# Altium integrated library ConnCable.IntLib: 48 symbols
Pins are listed as number, name and electrical type; pins without a type are passive.

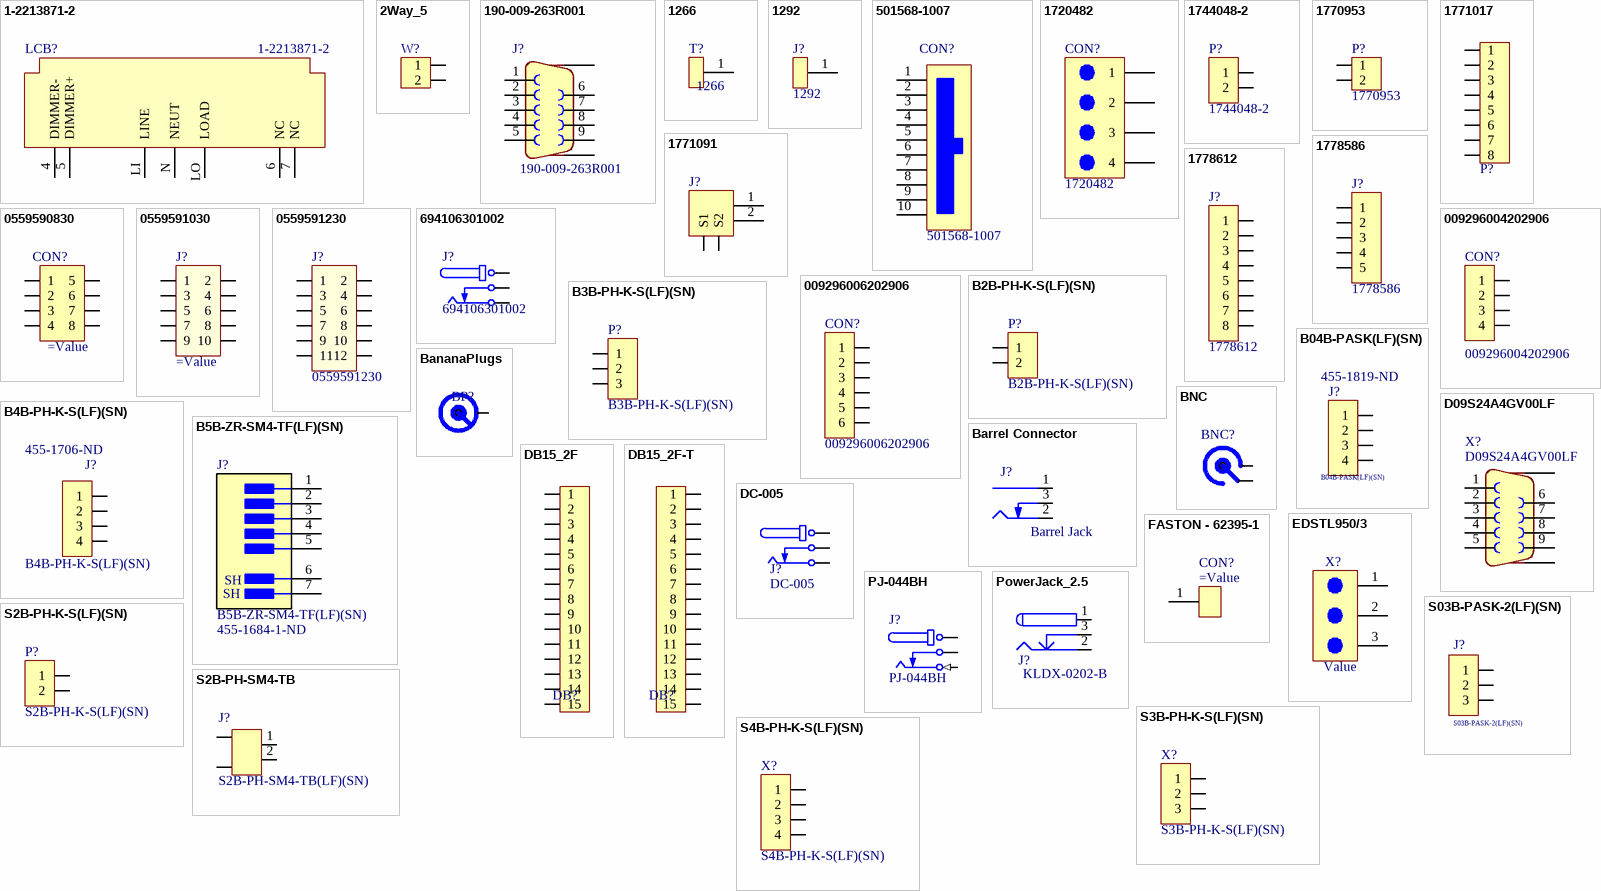
[diagram p0: symbols 1-2213871-2 to S4B-PH-K-S(LF)(SN)]

## 1-2213871-2
designator LCB?
LIGHT CONTROLLER BASE ASSY,81MM; Manufacturer: TE Connectivity AMP Connectors; Accessory Type: Light Controller Base Assembly; For Use With/Related Products: TE Connectivity, 2306130-x, 2213996-x; Supplier 1: Digi-Key; Manufacturer Part Number: 1-2213871-2; RoHS: RoHS Compliant; Category: Optoelectronics; Stock 1: 100; Pricing 1: 1=9.41, 10=8.523, 25=6.7476, 100=5.6821, 250=5.32692, 500=4.88302, 1000=4.61668 (USD); Part Status: Active; ComponentLink1URL: http://www.te.com/commerce/DocumentDelivery/DDEController?Action=srchrtrv&DocNm=2213871&DocType=Customer+Drawing&DocLang=English; ComponentLink1Description: http://www.te.com/commerce/DocumentDelivery/DDEController?Action=srchrtrv&DocNm=2213871&DocType=Customer+Drawing&DocLang=English; Supplier Part Number 1: A126616-ND; Value: 1-2213871-2
footprint 1-2213871-2 (LIGHT CONTROLLER BASE ASSY,81MM)
pins: 4 DIMMER-, 5 DIMMER+, 6 NC, 7 NC, LI LINE, LO LOAD, N NEUT

## 2Way_5
designator W?  (value not drawn)
DB; Populated: Yes; LifeCycle: Checked; ROHS: Yes
footprint 2Way_5
pins: 1, 2

## 190-009-263R001
designator J?
CONN DSUB RCPT 9POS SMD R/A SLDR; Manufacturer: NorComp Inc.; Connector Style: D-Sub; Connector Type: Receptacle, Female Sockets; Number of Positions: 9; Flange Feature: Housing/Shell (4-40); Material Flammability Rating: UL94 V-0; Voltage Rating: 300V; Current Rating: 5A; Supplier 1: Digi-Key; Manufacturer Part Number: 190-009-263R001; RoHS: RoHS Compliant; Category: Connectors, Interconnects; Stock 1: 3599; Pricing 1: 1=2.53, 10=2.424, 100=2.02, 500=1.717, 1000=1.4645, 5000=1.313 (USD); Packaging: Tube; Part Status: Active; Number of Rows: 2; Shell Size, Connector Layout: 1 (DE, E); Contact Type: Signal; Mounting Type: Board Edge, Surface Mount, Right Angle; Termination: Solder; Features: Board Guide, Board Lock, Shielded; Shell Material, Finish: Steel, Nickel Plated; Contact Finish: Gold; Contact Finish Thickness: Flash; Ingress Protection: -; Operating Temperature: -55°C ~ 105°C; Color: Black; Contact Form: -; Housing Material: Polyamide (PA6T), Nylon 6T; Wire Gauge: -; Contact Material: Phosphor Bronze; Backset Spacing: -; ComponentLink1URL: http://www.norcomp.net/rohspdfs/Connectors/19Y/190/190-009-263R001.pdf; ComponentLink1Description: http://www.norcomp.net/rohspdfs/Connectors/19Y/190/190-009-263R001.pdf; Value: 190-009-263R001; Supplier Part Number 1: 190-09FA-ND
footprint DB9-SMD
pins: 1, 2, 3, 4, 5, 6, 7, 8, 9, G1, G2

## 1266
designator T?
CONN QC TAB 0.250 SOLDER; Manufacturer: Keystone Electronics; Material: Brass,Tin; Body Plating: Tin; Body Material: Brass; Gender: Male; Number of Positions: 1; Insulation: Non-Insulated; Inside Diameter: 1.78mm; Tab Width: 0.25inch; Tab Thickness: 0.032inch; Approvals: UL; Tab Length: 0.312inch; Supplier 1: Digi-Key; Manufacturer Part Number: 1266; Stock 1: 12259; Pricing 1: 1=0.3, 10=0.283, 50=0.2366, 100=0.1982, 250=0.178, 500=0.1699, 1000=0.14495, 2500=0.12944, 5000=0.12135 (USD); Mount: Through Hole,Horizontal; Case/Package: 052; Contact Plating: Tin; Contact Material: Brass; Terminal Material: Brass; Package Quantity: 100; Packaging: Bulk; Termination: Solder; Orientation: Horizontal; Diameter: 0.052inch; Length: 20.04mm; Depth: 12.7mm; REACH SVHC: No SVHC; Lead Free: Lead Free; ComponentLink1URL: https://datasheet.ciiva.com/11835/0900766b800aa192-11835874.pdf; ComponentLink1Description: https://datasheet.ciiva.com/11835/0900766b800aa192-11835874.pdf; ComponentLink2URL: https://datasheet.ciiva.com/22647/1933925-22647397.pdf; ComponentLink2Description: https://datasheet.ciiva.com/22647/1933925-22647397.pdf; ComponentLink3URL: https://datasheet.ciiva.com/45986/2222221-45986615.pdf; ComponentLink3Description: https://datasheet.ciiva.com/45986/2222221-45986615.pdf; ComponentLink4URL: https://datasheet.ciiva.com/14551/70181613-14551274.pdf; ComponentLink4Description: https://datasheet.ciiva.com/14551/70181613-14551274.pdf; Value: 1266; Supplier Part Number 1: 36-1266-ND
footprint 1266
pins: 1 GND

## 1292
designator J?
CONN QC TAB 0.250 SOLDER, VERTICAL THT, / TAB LENGHT 18.03 mm ,Tab Thickness 0.81mm; Manufacturer: Keystone Electronics; Gender: Male; Insulation: Non-Insulated; Tab Width: 0.25inch; Tab Thickness: 0.032inch; Tab Length: 0.71inch; Supplier: Digikey; Supplier Part Number: 36-1292-ND; Manufacturer Part Number: 1292; RoHS: Yes; Category: Terminals; Stock: 54927; Pricing: 1=0,35, 25=0,2812, 100=0,2296, 250=0,2062, 500=0,19682, 1000=0,16402, 2500=0,14996 (USD); Mounting Technology: Through Hole; Contact Material: Brass; Contact Plating: Tin; Series: -; Package Quantity: 100; Packaging: Bulk; Termination: Solder; Orientation: Straight; Length: 0.94inch; RoHS Compliant: Yes; ComponentLink1URL: https://datasheet.ciiva.com/842/pcb-quick-fit-male20terminals-842208.pdf?src-supplier=Digikey; ComponentLink1Description: https://datasheet.ciiva.com/842/pcb-quick-fit-male20terminals-842208.pdf?src-supplier=Digikey; ComponentLink2URL: https://datasheet.ciiva.com/15391/1292-283348-15391839.pdf?src-supplier=Mouser; ComponentLink2Description: https://datasheet.ciiva.com/15391/1292-283348-15391839.pdf?src-supplier=Mouser
footprint KEYSTONE_1292 (CONN QC TAB 0.250 SOLDER)
pins: 1

## 501568-1007
designator CON?
Conn Shrouded Header HDR 10 POS 1mm Solder RA SMD Embossed T/R; Manufacturer 1: Molex; Number of Positions: 10; Connector Type: Male Pin; Current Rating: 1A; Voltage Rating: 50V; Gender: Male; Max Voltage Rating (DC): 5.05kV; Glow Wire Compliant: Non-compliant; Supplier 1: Digi-Key; Manufacturer Part Number 1: 501568-1007; Stock 1: 19191; Pricing 1: 1=0,79000, 10=0,69600, 100=0,60040, 500=0,49124 (USD); RoHS: Yes; Mount: Surface Mount; Housing Color: Natural; Housing Material: Nylon; Contact Material: Bronze,Brass; Color: Natural; Contact Plating: Tin; Min Operating Temperature: -40°C; Max Operating Temperature: 85°C; Orientation: Right Angle; Termination: Solder; Number of Contacts: 10; Contact Gender: Male; Number of Rows: 1; Packaging: Tape and Reel; Package Quantity: 1300; Max Voltage Rating (AC): 50V; Voltage Rating (AC): 50V; Number of Circuits: 10; Length: 12mm; Pitch: 1mm; Depth: 5.9mm; Radiation Hardening: No; REACH SVHC: Unknown; Lead Free: Lead Free; ComponentLink1URL: https://datasheet.ciiva.com/5153/5015681007-pcb-headers-179103-5153866.pdf?src-supplier=Mouser; ComponentLink1Description: https://datasheet.ciiva.com/5153/5015681007-pcb-headers-179103-5153866.pdf?src-supplier=Mouser; ComponentLink2URL: https://datasheet.ciiva.com/30120/5015681007-pcb-headers-30120143.pdf?src-supplier=Onlinecomponents.com; ComponentLink2Description: https://datasheet.ciiva.com/30120/5015681007-pcb-headers-30120143.pdf?src-supplier=Onlinecomponents.com; ComponentLink3URL: https://datasheet.ciiva.com/25289/1806596-25289943.pdf?src-supplier=Newark; ComponentLink3Description: https://datasheet.ciiva.com/25289/1806596-25289943.pdf?src-supplier=Newark; ComponentLink4URL: https://datasheet.ciiva.com/11748/0900766b80b0af8e-11748586.pdf?src-supplier=RSComponents; ComponentLink4Description: https://datasheet.ciiva.com/11748/0900766b80b0af8e-11748586.pdf?src-supplier=RSComponents; ComponentLink5URL: https://datasheet.ciiva.com/7810/ps-501568-001-7810320.pdf?src-supplier=Element14; ComponentLink5Description: https://datasheet.ciiva.com/7810/ps-501568-001-7810320.pdf?src-supplier=Element14; ComponentLink6URL: https://datasheet.ciiva.com/9469/5015681007-pcb-headers-9469138.pdf?src-supplier=Avnet; ComponentLink6Description: https://datasheet.ciiva.com/9469/5015681007-pcb-headers-9469138.pdf?src-supplier=Avnet; ComponentLink7URL: https://datasheet.ciiva.com/9469/5015681007-pcb-headers-9469135.pdf?src-supplier=Avnet; ComponentLink7Description: https://datasheet.ciiva.com/9469/5015681007-pcb-headers-9469135.pdf?src-supplier=Avnet; ComponentLink8URL: https://datasheet.ciiva.com/724/5015681007-sd-724413.pdf?src-supplier=Digi-Key; ComponentLink8Description: https://datasheet.ciiva.com/724/5015681007-sd-724413.pdf?src-supplier=Digi-Key; ComponentLink9URL: https://datasheet.ciiva.com/16690/5015681007-pcb-headers-16690573.pdf?src-supplier=Avnet+Europe; ComponentLink9Description: https://datasheet.ciiva.com/16690/5015681007-pcb-headers-16690573.pdf?src-supplier=Avnet+Europe; Value: 501568-1007; Supplier Part Number 1: WM7901CT-ND
footprint 5015681007
pins: 1, 2, 3, 4, 5, 6, 7, 8, 9, 10

## 1720482
designator CON?
TERM BLOCK HDR 4POS 90DEG 7.62MM; Manufacturer: Phoenix Contact; Number of Positions: 4; Number of Levels: 1; Pitch: 0.300" (7.62mm); Header Orientation: 90°, Right Angle; Current - IEC: 41A; Voltage - IEC: 1000V; Voltage - UL: 300V; Material Flammability Rating: UL94 V-0; Contact Tail Length: 0.197" (5.00mm); Supplier 1: Digi-Key; Manufacturer Part Number: 1720482; RoHS: RoHS Compliant; Category: Connectors, Interconnects; Stock 1: 536; Pricing 1: 1=5.52, 10=5.371, 50=5.02, 100=4.6184, 250=4.267, 500=4.0662, 1000=3.81521 (USD); Packaging: Bulk; Part Status: Active; Type: Header, Male Pins, Shrouded (4 Side); Positions Per Level: 4; Plug Wire Entry: -; Termination Style: Solder; Mounting Type: Through Hole; Current - UL: 41A; Wire Gauge or Range - AWG: -; Wire Gauge or Range - mm²: -; Color: Green; Operating Temperature: -; Contact Mating Finish: Tin; Features: Latch Lock; Ingress Protection: -; Screw Size: -; Torque - Screw: -; Wire Strip Length: -; Contact Material: -; Housing Material: Polyamide (PA), Nylon; Insulation Height: 0.563" (14.30mm); ComponentLink1URL: http://media.digikey.com/pdf/Data%20Sheets/Phoenix%20Contact%20PDFs/1720482.pdf; ComponentLink1Description: http://media.digikey.com/pdf/Data%20Sheets/Phoenix%20Contact%20PDFs/1720482.pdf; Value: 1720482; Supplier Part Number 1: 277-6233-ND
footprint 1720482
pins: 1, 2, 3, 4

## 1744048-2
designator P?
CONN HEADER R/A 2POS 5.08MM; Supplier 1: Digi-Key; Value: 1744048-2; Supplier Part Number 1: A116467-ND
footprint 1744048-2
pins: 1, 2

## 1770953
designator P?
CONN TERM BLK 2POS 2.5MM; Number of Levels: 1; Positions Per Level: 2; Pitch: 0.098" (2.50mm); Mating Orientation: Vertical with Board; Current: 5A; Voltage: 150V; Wire Gauge: 20-26 AWG; Wire Termination: Screwless - Spring Cage, Tension Clamp; Packaging: Cut Tape (CT); Part Status: Active; Mounting Type: Through Hole; Features: -; Color: Black; Operating Temperature: -; Housing Material: Liquid Crystal Polymer (LCP); Contact Material - Plating: -; Clamp Material - Plating: -; Screw Material - Plating: -; Torque - Screw: -; Screw Thread: -; ComponentLink1URL: http://media.digikey.com/pdf/Data%20Sheets/Phoenix%20Contact%20PDFs/1770953.pdf; ComponentLink1Description: http://media.digikey.com/pdf/Data%20Sheets/Phoenix%20Contact%20PDFs/1770953.pdf; Supplier 1: Digi-Key; Supplier Part Number 1: 277-2086-1-ND
footprint 1770953
pins: 1, 2

## 1771017
designator P?  (value not drawn)
Number of Levels: 1; Positions Per Level: 8; Pitch: 0.098" (2.50mm); Mating Orientation: Vertical with Board; Current: 5A; Voltage: 150V; Wire Gauge: 20-26 AWG; Wire Termination: Screwless - Spring Cage, Tension Clamp; Packaging: Cut Tape (CT); Part Status: Active; Mounting Type: Through Hole; Features: -; Color: Black; Operating Temperature: -; Housing Material: Liquid Crystal Polymer (LCP); Contact Material - Plating: -; Clamp Material - Plating: -; Screw Material - Plating: -; Torque - Screw: -; Screw Thread: -; ComponentLink1URL: http://media.digikey.com/pdf/Data%20Sheets/Phoenix%20Contact%20PDFs/1771017.pdf; ComponentLink1Description: http://media.digikey.com/pdf/Data%20Sheets/Phoenix%20Contact%20PDFs/1771017.pdf; Supplier 1: Digi-Key; Supplier Part Number 1: 277-2092-1-ND
footprint 1771017
pins: 1, 2, 3, 4, 5, 6, 7, 8

## 1771091
designator J?  (value not drawn)
CONN TERM BLK 2POS 2.5MM SMD; Populated: Yes; Value: 1771091; Supplier 1: Digi-Key; Supplier Part Number 1: 277-2072-1-ND; LifeCycle: Checked; ROHS: Yes
footprint 1771091
pins: 1, 2 1, S1, S2

## 1778586
designator J?
Connector, Shrouded, 5 pin, 2.5mm Pitch; Populated: Yes; LatestRevisionDate: 21-December-2015; PackageReference: LAUNCHPAD_HEADER; ROHS: Yes; Value: 1778586; LifeCycle: Checked
footprint 1778586
pins: 1, 2, 3, 4, 5

## 1778612
designator J?
CONN HEADER 8POS 2.5MM; Manufacturer: Phoenix Contact; Max Current Rating: 6A; Voltage Rating: 160V; Number of Positions: 8; Number of Levels: 1; Voltage: 150V; Approvals: UL; Supplier 1: Digi-Key; Manufacturer Part Number: 1778612; Stock 1: 5806; Pricing 1: 1=1.55, 10=1.484, 100=1.3803 (USD); Mount: Through Hole; Contact Plating: Tin; Colour: Black; Housing Material: Polymer; Housing Colour: Black; Current Rating: 6A; Package Quantity: 330; Packaging: Tape and Reel; Termination: Solder; Number of Poles: 8; Number of Contacts: 8; Orientation: Vertical; Number of Rows: 1; Number of Positions Per Level: 8; Current: 6A; Length: 5mm; Height: 7.5mm; Pitch: 2.5mm; Width: 21.7mm; Depth: 5mm; Lead Free: Lead Free; Flammability Rating: UL94 V-0; ComponentLink1URL: https://datasheet.ciiva.com/795/1778612-795449.pdf; ComponentLink1Description: https://datasheet.ciiva.com/795/1778612-795449.pdf; ComponentLink2URL: https://datasheet.ciiva.com/29211/734281-da-01-de-grundgehaeuse-ptsm-0-5-8-hv-2-5-thr-r44-29211951.pdf; ComponentLink2Description: https://datasheet.ciiva.com/29211/734281-da-01-de-grundgehaeuse-ptsm-0-5-8-hv-2-5-thr-r44-29211951.pdf; Value: 1778612; Supplier Part Number 1: 277-2307-1-ND
footprint 1778612 (TERM BLOCK HDR 8POS VERT 2.5MM)
pins: 1, 2, 3, 4, 5, 6, 7, 8

## 0559590830
designator CON?
Conn Shrouded Header HDR 8 POS 2mm Solder RA Thru-Hole MicroClasp™ Tray; Manufacturer: Molex; Manufacturer Part Number: 0559590830; Number of Positions: 8; Connector Type: Male Pin; Pitch: 0.079inch; Row Spacing: 0.197inch; Supplier 1: Digi-Key; Stock 1: 4162; Pricing 1: 1=0.73, 10=0.641, 100=0.5529, 500=0.4523, 1000=0.4021, 5000=0.3518, 10000=0.3342 (USD); Mount: Through Hole; Colour: Natural; Contact Plating: Tin; Contact Material: Brass; Housing Material: Polybutylene; Housing Colour: Natural; Min Operating Temperature: -25°C; Max Operating Temperature: 85°C; Package Quantity: 800; Packaging: Tray; Number of Rows: 2; Termination: Solder; Orientation: Right Angle; Fastening Type: Latch; Length: 11.4mm; Depth: 14.5mm; Radiation Hardening: No; ComponentLink1URL: https://datasheet.ciiva.com/3117/0559590830-pcb-headers-3117676.pdf; ComponentLink1Description: https://datasheet.ciiva.com/3117/0559590830-pcb-headers-3117676.pdf; ComponentLink2URL: https://datasheet.ciiva.com/29151/559590830-sd-29151564.pdf; ComponentLink2Description: https://datasheet.ciiva.com/29151/559590830-sd-29151564.pdf; ComponentLink3URL: https://datasheet.ciiva.com/2943/559590830-sd-2943677.pdf; ComponentLink3Description: https://datasheet.ciiva.com/2943/559590830-sd-2943677.pdf; Supplier Part Number 1: WM10112-ND
footprint 0559590830 (2.0 WTB DUAL CONN DIP PLG HSG)
pins: 1, 2, 3, 4, 5, 6, 7, 8

## 0559591030
designator J?
Conn Shrouded Header HDR 8 POS 2mm Solder RA Thru-Hole MicroClasp™ Tray; Manufacturer: Molex; Manufacturer Part Number: 0559590830; Number of Positions: 8; Connector Type: Male Pin; Pitch: 0.079inch; Row Spacing: 0.197inch; Mount: Through Hole; Colour: Natural; Contact Plating: Tin; Contact Material: Brass; Housing Material: Polybutylene; Housing Colour: Natural; Min Operating Temperature: -25°C; Max Operating Temperature: 85°C; Package Quantity: 800; Packaging: Tray; Number of Rows: 2; Termination: Solder; Orientation: Right Angle; Fastening Type: Latch; Length: 11.4mm; Depth: 14.5mm; Radiation Hardening: No; ComponentLink1URL: https://datasheet.ciiva.com/3117/0559590830-pcb-headers-3117676.pdf; ComponentLink1Description: https://datasheet.ciiva.com/3117/0559590830-pcb-headers-3117676.pdf; ComponentLink2URL: https://datasheet.ciiva.com/29151/559590830-sd-29151564.pdf; ComponentLink2Description: https://datasheet.ciiva.com/29151/559590830-sd-29151564.pdf; ComponentLink3URL: https://datasheet.ciiva.com/2943/559590830-sd-2943677.pdf; ComponentLink3Description: https://datasheet.ciiva.com/2943/559590830-sd-2943677.pdf; Supplier 1: Digi-Key; Supplier Part Number 1: WM7595-ND
footprint 0559591030 (2.0 WTB DUAL CONN DIP PLG HSG)
pins: 1, 2, 3, 4, 5, 6, 7, 8, 9, 10

## 0559591230
designator J?
Conn Shrouded Header HDR 12 POS 2mm Solder RA Thru-Hole MicroClasp™ Tray; Manufacturer 1: Molex; Number of Positions: 12; Connector Type: Male Pin; Row Spacing: 0.197inch; Supplier 1: Digi-Key; Manufacturer Part Number 1: 0559591230; Stock 1: 2008; Pricing 1: 1=0,90000, 10=0,78800, 100=0,67980, 500=0,55616, 1000=0,49437, 5000=0,43257, 10000=0,41094 (USD); RoHS: Yes; Mount: Through Hole; Housing Material: Polybutylene; Contact Plating: Tin; Contact Material: Brass; Color: Natural; Housing Color: Natural; Min Operating Temperature: -25°C; Max Operating Temperature: 85°C; Packaging: Tray; Orientation: Right Angle; Package Quantity: 600; Number of Rows: 2; Termination: Solder; Number of Contacts: 12; Fastening Type: Latch; Length: 15.4mm; Pitch: 2mm; Depth: 14.5mm; ComponentLink1URL: https://datasheet.ciiva.com/2943/559591230-sd-2943788.pdf?src-supplier=Digi-Key; ComponentLink1Description: https://datasheet.ciiva.com/2943/559591230-sd-2943788.pdf?src-supplier=Digi-Key; Supplier Part Number 1: WM12307-ND; Value: 0559591230
footprint 0559591230 (2.0 WTB DUAL CONN DIP PLG HSG)
pins: 1, 2, 3, 4, 5, 6, 7, 8, 9, 10, 11, 12

## 694106301002
designator J?
CONN PWR JACK 2.1X5.5MM SOLDER; Manufacturer: Wurth Electronics Inc.; Gender: Male; Industry Recognized Mating Diameter: 2.10mm ID (0.083"), 5.50mm OD (0.217"); Actual Diameter: 0.081" (2.05mm ID), 0.252" (6.40mm OD); Number of Positions/Contacts: 2 Conductors, 3 Contacts; Internal Switch(s): Single Switch, Normally Closed; Shielding: Unshielded; Voltage - Rated: 24VDC; Current Rating: 5A; Mating Length/Depth: 0.354" (9.00mm); Body Color: Black; Material Flammability Rating: UL94 V-0; Supplier 1: Digi-Key; Manufacturer Part Number: 694106301002; RoHS: RoHS Compliant; Category: Connectors, Interconnects; Stock 1: 8980; Pricing 1: 1=1.05, 10=0.923, 50=0.8322, 100=0.796, 500=0.65124, 1000=0.57888, 2500=0.551 (USD); Packaging: Bulk; Part Status: Active; Connector Type: Jack; Mounting Type: Through Hole, Right Angle; Mounting Feature: -; Termination: Solder Eyelet(s); Features: -; Insulation Color: -; Contact Material - Plating: Tin; Body Material: -; Operating Temperature: -40°C ~ 85°C; Includes: -; Housing Material: Polyamide (PA66), Nylon 6/6; Contact Material: Copper Alloy; Thread Size: -; Ingress Protection: -; ComponentLink1URL: http://katalog.we-online.de/em/datasheet/6941xx301002.pdf; ComponentLink1Description: http://katalog.we-online.de/em/datasheet/6941xx301002.pdf; Value: 694106301002; Supplier Part Number 1: 732-5930-ND
footprint 694106301002
pins: 1 S, 2 T, 3 TN

## 009296004202906
designator CON?
CONN 4POS SMD 20-26AWG; Manufacturer: Kyocera AVX; Supplier 1: Digi-Key; Manufacturer Part Number: 009296004202906; Stock 1: 1860; Pricing 1: 1=0.7, 10=0.657, 100=0.5035, 500=0.4378, 1000=0.3612 (USD); ComponentLink1URL: http://datasheets.avx.com/PHLPHorizontal_00-9296.pdf; ComponentLink1Description: http://datasheets.avx.com/PHLPHorizontal_00-9296.pdf; Supplier Part Number 1: 478-9535-6-ND
footprint 009296004202906
pins: 1, 2, 3, 4

## 009296006202906
designator CON?
T&R / SOLID STATE LIGHTING; Manufacturer: Kyocera AVX; Number of Positions: 6; Connector Type: Poke-In; Wire Gauge (Max): 26AWG; Wire Gauge (Min): 20AWG; Supplier 1: Digi-Key; Supplier Part Number 1: 478-9537-1-ND; Manufacturer Part Number: 009296006202906; Stock 1: 4476; Pricing 1: 1=0.8, 10=0.704, 100=0.6074, 500=0.49698, 1000=0.44176 (USD); Mount: Surface Mount; Number of Pins: 6; Contact Plating: Tin; Packaging: Tape and Reel; Number of Rows: 1; ComponentLink1URL: http://datasheets.avx.com/PHLPHorizontal_00-9296.pdf; ComponentLink1Description: http://datasheets.avx.com/PHLPHorizontal_00-9296.pdf; Value: 009296006202906
footprint 009296006202906
pins: 1, 2, 3, 4, 5, 6

## B2B-PH-K-S(LF)(SN)
designator P?
Header, JST, Shrouded, Single row, 2 pin, 2mm, Through Hole; Manuf1: JST Sales America; Populated: Yes; LatestRevisionDate: 14-August-2014; PackageReference: JST_1x2_HDR-RA; ROHS: Yes; Value: B2B-PH-K-S(LF)(SN); Manuf1Partnumber: B2B-PH-K-S(LF)(SN); LifeCycle: Checked
footprint JST_1x2_HDR (JST 2 pin)
pins: 1, 2

## B3B-PH-K-S(LF)(SN)
designator P?
Header, JST, Shrouded, Single row, 3 pin, 2mm, Through Hole; Manuf1: JST Sales America; Populated: Yes; LatestRevisionDate: 22-December-2015; PackageReference: JST_1x3_HDR-RA; ROHS: Yes; Value: B3B-PH-K-S(LF)(SN); Manuf1Partnumber: B3B-PH-K-S(LF)(SN); LifeCycle: Checked
footprint JST_1x3_HDR (JST 3 pin)
pins: 1, 2, 3

## B04B-PASK(LF)(SN)
designator J?  Supplier Part Number 1: 455-1819-ND
CONN HEADER VERT 4POS 2MM; Supplier 1: Digi-Key
footprint B04B-PASK(LF)(SN)
pins: 1, 2, 3, 4

## B4B-PH-K-S(LF)(SN)
designator J?  Supplier Part Number 1: 455-1706-ND
CONN HEADER VERT 4POS 2MM; Supplier 1: Digi-Key
footprint B4B-PH-K-S(LF)(SN)
pins: 1, 2, 3, 4

## B5B-ZR-SM4-TF(LF)(SN)
designator J?  Supplier Part Number 1: 455-1684-1-ND
Conn Shrouded Header HDR 5 POS 1.5mm Solder ST SMD T/R; Manufacturer: JST; Number of Positions: 5; Gender: Male; Connector Type: Male Pin; Current Rating: 1A; Pitch: 0.059inch; Supplier 1: Digi-Key; Manufacturer Part Number: B5B-ZR-SM4-TF(LF)(SN); Stock 1: 5493; Pricing 1: 1 = 0,79000, 10 = 0,74200, 100 = 0,56860, 500 = 0,49442 (USD); RoHS: Yes; Mount: Surface Mount; Contact Material: Tin; Contact Plating: Tin; Color: Natural; Housing Color: Natural; Housing Material: Nylon; Number of Rows: 1; Packaging: Tape and Reel; Number of Contacts: 5; Termination: Solder; Fastening Type: Detent; Length: 10.5mm; Height: 7.2mm; Width: 3.5mm; Lead Free: Lead Free; ComponentLink1URL: https://datasheet.ciiva.com/25618/0900766b81147f94-25618008.pdf?src-supplier=RSComponents; ComponentLink1Description: https://datasheet.ciiva.com/25618/0900766b81147f94-25618008.pdf?src-supplier=RSComponents; Value: B5B-ZR-SM4-TF(LF)(SN)
footprint FP-B5B-ZR-SM4-TF_LF_SN-MFG
pins: 1, 2, 3, 4, 5, 6 MNT 1, 7 MNT 2
text: SH

## BananaPlugs
designator BP?  (value not drawn)
Populated: Yes; LifeCycle: Checked; ROHS: Yes
footprint BananaPlugs_Red
footprint BananaPlugs_Black
pins: 1

## Barrel Connector
designator J?, comment Barrel Jack
Power Barrel Connector Jack; Populated: Yes; LifeCycle: Checked; ROHS: Yes
footprint CUI PJ-014DH-SMT
footprint CUI PJ-014D
footprint CUI PJ-040D
footprint CUI PJ-068B-SMT (Mid Mount DC Power Jack)
footprint CUI PJ-069B-SMT (Mid Mount DC Power Jack)
footprint CUI PJ-075-SMT
footprint CUI PJ-102AH (DC Barrel Jack W/ Switch 2.0x5.5)
pins: 1 Centre, 2 Outer, 3 SW

## BNC
designator BNC?  (value not drawn)
Populated: Yes; LifeCycle: Checked; ROHS: Yes
footprint BNC_4P
pins: 1, 2

## D09S24A4GV00LF
designator X?
CONN D-SUB RCPT 9POS VERT SOLDER; Manufacturer: Amphenol FCI; Connector Type: Receptacle, Female Sockets; Number of Positions: 9; Flange Feature: Mating Side, Female Screwlock (4-40); Material Flammability Rating: UL94 V-0; Voltage Rating: 300V; Current Rating: 5A; Supplier 1: Digi-Key; Manufacturer Part Number: D09S24A4GV00LF; RoHS: RoHS Compliant; Category: Connectors, Interconnects; Stock 1: 9525; Pricing 1: 1=2.23, 10=2.021, 25=1.8976, 50=1.815, 100=1.7325, 250=1.56752, 500=1.44376, 1000=1.2375, 2500=1.155 (USD); Packaging: Tray; Part Status: Active; Connector Style: D-Sub; Number of Rows: 2; Shell Size, Connector Layout: 1 (DE, E); Contact Type: Signal; Mounting Type: Through Hole; Termination: Solder; Features: Board Lock; Shell Material, Finish: Steel, Tin Plated; Contact Finish: Gold; Contact Finish Thickness: Flash; Ingress Protection: -; Operating Temperature: -55°C ~ 125°C; Color: Black; Contact Form: -; Housing Material: Polybutylene Terephthalate (PBT); Wire Gauge: -; Contact Material: Phosphor Bronze; Backset Spacing: -; ComponentLink1URL: http://portal.fciconnect.com/Comergent//fci/drawing/c01-8646-0752.pdf; ComponentLink1Description: http://portal.fciconnect.com/Comergent//fci/drawing/c01-8646-0752.pdf; Value: D09S24A4GV00LF; Supplier Part Number 1: 609-1485-ND
footprint sd09s24a6gv00lf
pins: 1, 2, 3, 4, 5, 6, 7, 8, 9, G1, G2

## DB15_2F
designator DB?  (value not drawn)
DB; Populated: Yes; LifeCycle: Checked; ROHS: Yes
footprint DB15_2F
pins: 1, 2, 3, 4, 5, 6, 7, 8, 9, 10, 11, 12, 13, 14, 15

## DB15_2F-T
designator DB?  (value not drawn)
DB; Populated: Yes; LifeCycle: Checked; ROHS: Yes
footprint DB15_2F
pins: 1, 2, 3, 4, 5, 6, 7, 8, 9, 10, 11, 12, 13, 14, 15

## DC-005
designator J?
CONN PWR JACK 2mm x 6.4mm TH R/A; Manufacturer Part Number: DC-005-A200; Manufacturer: XUNPU; LCSC: C720557; ComponentLink1Description: LCSC Link; ComponentLink1URL: https://www.lcsc.com/product-detail/C720557.html?s_z=n_q_t_DC-005&spm=wm.fly.bg.0.stp___wm.ssy.tc.0.tz&lcsc_vid=RABaBgEAQFJbU1QAFAVcVQJeFgNeU1QCTlBaXgJTE1QxVlNeQ1FbX1xURVNaVjsOAxUeFF5JWBYZEEoKFBINSQcJGk4%3D
footprint LIANXINTECHNOLOGY_XDJK-0051-025 (CONN PWR JACK 2.1mm x 6.3mm TH R/A)
pins: 1 S, 2 T, 3 TN

## EDSTL950/3
designator X?, comment Value
TERM BLOCK HDR 3POS R/A 5MM; Value: EDSTL950/3; Populated: Yes; Supplier 1: Digi-Key; Supplier Part Number 1: ED1802-ND; RoHS: Yes; ComponentLink1URL: http://www.on-shore.com/wp-content/uploads/2015/09/edstl950.pdf; ComponentLink1Description: http://www.on-shore.com/wp-content/uploads/2015/09/edstl950.pdf; LifeCycle: Checked
footprint EDSTL950/3
pins: 1, 2, 3

## FASTON - 62395-1
designator CON?
CONN QC TAB 0.110 SOLDER; Supplier 1: Digi-Key; Supplier Part Number 1: A24747CT-ND
footprint FASTON-TAB_2_79
pins: 1

## PJ-044BH
designator J?
DC Jack, 2.5mm ID, 5.5mm OD, TH; Manuf1: CUI; Populated: Yes; LatestRevisionDate: 11-October-2015; ROHS: Yes; Value: PJ-044BH; Manuf1Partnumber: PJ-044BH; Lifecycle: Checked; Supplier 1: Digi-Key; Supplier 2: Mouser; Supplier Part Number 1: CP-044BH-ND; Supplier Part Number 2: 490-PJ-044BH
footprint PJ-044BH (DC Jack)
pins: 1 S (power) "Sleeve (Ground)", 2 T (in) "Tip/Left Channel/(+)", 3 TN "Tip Normal (Break Contact)"

## PowerJack_2.5
designator J?, comment KLDX-0202-B
DC Power Jack; Populated: Yes; LifeCycle: Checked; ROHS: Yes; Value: KLDX-0202-B
footprint KLD_0202
pins: 1 (power), 2 (power), 3 (power)

## S2B-PH-K-S(LF)(SN)
designator P?
CONN HEADER R/A 2POS 2MM; Manufacturer: JST; Contact Resistance: 20mR; Max Current Rating: 2A; Number of Positions: 2; Max Voltage Rating (AC): 100V; Insulation Resistance: 1GR; Gender: Male; Connector Type: Male Pin; Supplier 1: Digi-Key; Manufacturer Part Number: S2B-PH-K-S(LF)(SN); RoHS: Yes; Stock 1: 192594; Pricing 1: 1 = 0,170000, 10 = 0,161000, 100 = 0,099100, 500 = 0,082020, 1000 = 0,071770, 5000 = 0,061520, 10000 = 0,059810 (USD); Mount: Through Hole; Number of Pins: 2; Contact Material: Brass,Bronze,Tin; Contact Plating: Copper,Tin; Color: Natural,White; Housing Color: White; Housing Material: Polyamide; Min Operating Temperature: -25°C; Max Operating Temperature: 85°C; Number of Rows: 1; Current Rating: 2A; Packaging: Bulk; Termination: Solder; Fastening Type: Detent; Number of Contacts: 2; Working Voltage: 100V; Orientation: Right Angle; Voltage Rating: 100V; Number of Poles: 2; Voltage Rating (AC): 100V; Max Voltage Rating (DC): 100V; Length: 5.9mm; Height: 9.4mm; Width: 4.5mm; Pitch: 2mm; Depth: 7.6mm; Lead Pitch: 2mm; Contact Mating Length: 0.13inch; REACH SVHC: No SVHC; Lead Free: Lead Free; Flammability Rating: UL94 V-0; ComponentLink1URL: http://www1.futureelectronics.com/doc/JST/S2B-PH-K-S(LF)(SN).pdf; ComponentLink1Description: http://www1.futureelectronics.com/doc/JST/S2B-PH-K-S(LF)(SN).pdf; ComponentLink2URL: https://www.verical.com/server-webapp/html/getDatasheet?partID=641020; ComponentLink2Description: https://www.verical.com/server-webapp/html/getDatasheet?partID=641020; ComponentLink3URL: http://www.jst-mfg.com/product/pdf/eng/ePH.pdf; ComponentLink3Description: http://www.jst-mfg.com/product/pdf/eng/ePH.pdf; ComponentLink4URL: http://www.farnell.com/datasheets/80564.pdf; ComponentLink4Description: http://www.farnell.com/datasheets/80564.pdf; Value: S2B-PH-K-S(LF)(SN); Supplier Part Number 1: 455-1719-ND
footprint S2B-PH-K-S(LF)(SN)
pins: 1, 2

## S2B-PH-SM4-TB
designator J?, comment S2B-PH-SM4-TB(LF)(SN)
CONN HEADER PH SIDE 2POS 2MM SMD; Manuf1: JST Sales America Inc.; Populated: Yes; Manuf1Partnumber: S2B-PH-SM4-TB(LF)(SN); Value: S2B-PH-SM4-TB(LF)(SN); HelpURL: *; ROHS: Yes; PackageReference: *; ClassName: *; Code_JEDEC: *; Supplier 1: Digi-Key; Supplier 2: Newark; Supplier Part Number 1: 455-1749-1-ND; Supplier Part Number 2: 38K8067; LifeCycle: Checked
footprint S2B-PH-SM4-TB (2POS 2MM SMD)
pins: 1, 2, T T1, T1 T2

## S03B-PASK-2(LF)(SN)
designator J?
CONN HEADER R/A 3POS 2MM
footprint S03B-PASK-2(LF)(SN)
pins: 1, 2, 3

## S3B-PH-K-S(LF)(SN)
designator X?
CONN HEADER PH SIDE 3POS 2MM; Manufacturer: JST Sales America Inc.; Pitch - Mating: 0.079" (2.00mm); Style: Board to Cable/Wire; Shrouding: Shrouded - 4 Wall; Number of Positions: 3; Number of Positions Loaded: All; Contact Length - Mating: 0.130" (3.30mm); Contact Length - Post: 0.134" (3.40mm); Material Flammability Rating: UL94 V-0; Current Rating: 2A; Voltage Rating: 100V; Mated Stacking Heights: 4.8mm; Supplier 1: Digi-Key; Manufacturer Part Number: S3B-PH-K-S(LF)(SN); RoHS: RoHS Compliant; Category: Connectors, Interconnects; Stock 1: 37680; Pricing 1: 1=0.18, 10=0.169, 100=0.1173, 500=0.09924, 1000=0.08119, 5000=0.07217, 10000=0.06541 (USD); Packaging: Bulk; Part Status: Active; Connector Type: Header; Contact Type: Male Pin; Number of Rows: 1; Row Spacing - Mating: -; Mounting Type: Through Hole, Right Angle; Termination: Press-Fit, Solder; Fastening Type: Detent Lock; Overall Contact Length: -; Insulation Height: 0.189" (4.80mm); Contact Shape: Square; Contact Finish - Mating: Tin; Contact Finish Thickness - Mating: -; Contact Finish - Post: Tin; Contact Material: Brass; Insulation Material: Polyamide (PA66), Nylon 6/6; Features: -; Operating Temperature: -25°C ~ 85°C; Ingress Protection: -; Insulation Color: Natural; Contact Finish Thickness - Post: -; Applications: -; ComponentLink1URL: http://www.jst-mfg.com/product/pdf/eng/ePH.pdf; ComponentLink1Description: http://www.jst-mfg.com/product/pdf/eng/ePH.pdf; Value: S3B-PH-K-S(LF)(SN); Supplier Part Number 1: 455-1720-ND
footprint S3B
footprint S3B - NO3D
pins: 1, 2, 3

## S4B-PH-K-S(LF)(SN)
designator X?
CONN HEADER R/A 4POS 2MM; Manufacturer: JST; Voltage Rating: 100V; Number of Poles: 4; Contact Resistance: 10mR; Current Rating: 2A; Insulation Resistance: 1GR; Gender: Male; Connector Type: Male Pin; Supplier 1: Digi-Key; Manufacturer Part Number: S4B-PH-K-S(LF)(SN); Stock 1: 262607; Pricing 1: 1=0,220000, 10=0,208000, 100=0,144000, 500=0,121860, 1000=0,099700, 5000=0,088620, 10000=0,080310 (USD); RoHS: Yes; Mount: Through Hole; Number of Pins: 4; Contact Material: Tin,Brass,Bronze; Contact Plating: Tin; Color: Natural,White; Housing Color: Natural; Min Operating Temperature: -25°C; Max Operating Temperature: 85°C; Packaging: Bulk; Termination: Solder; Number of Rows: 1; Voltage Rating (AC): 100V; Number of Positions: 4; Fastening Type: Detent; Number of Contacts: 4; Working Voltage: 100V; Orientation: Right Angle; Length: 9.9mm; Height: 9.4mm; Width: 4.5mm; Lead Pitch: 2mm; Pitch: 2mm; Contact Mating Length: 0.13inch; Lead Free: Lead Free; REACH SVHC: No SVHC; Flammability Rating: UL94 V-0; ComponentLink1URL: https://datasheet.ciiva.com/11747/0900766b8082653c-11747869.pdf?src-supplier=RSComponents; ComponentLink1Description: https://datasheet.ciiva.com/11747/0900766b8082653c-11747869.pdf?src-supplier=RSComponents; ComponentLink2URL: https://datasheet.ciiva.com/712/eph-712478.pdf?src-supplier=Digi-Key; ComponentLink2Description: https://datasheet.ciiva.com/712/eph-712478.pdf?src-supplier=Digi-Key; Value: S4B-PH-K-S(LF)(SN); Supplier Part Number 1: 455-1721-ND
footprint S4B-PH-K-S(LF)(SN)
pins: 1, 2, 3, 4

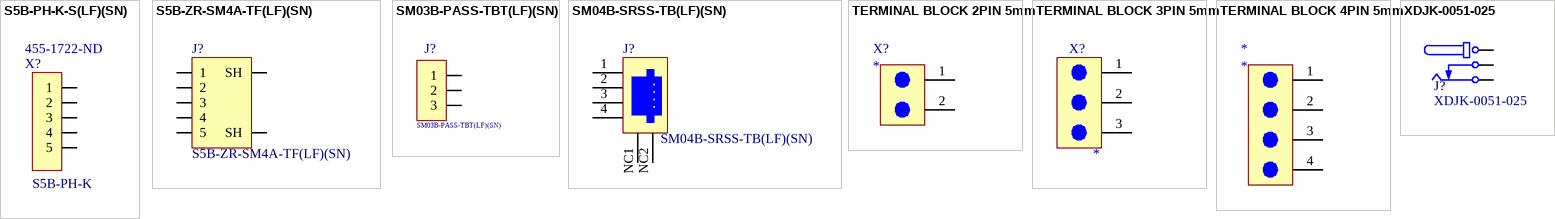
[diagram p1: symbols S5B-PH-K-S(LF)(SN) to XDJK-0051-025]

## S5B-PH-K-S(LF)(SN)
designator X?, comment S5B-PH-K  Supplier Part Number 1: 455-1722-ND
CONN HEADER R/A 5POS 2MM; Supplier 1: Digi-Key
footprint S5B-PH-K-S(LF)(SN)
pins: 1, 2, 3, 4, 5

## S5B-ZR-SM4A-TF(LF)(SN)
designator J?
CONN HEADER SMD R/A 5POS 1.5MM; Manufacturer 1: JST; Gender: Male; Connector Type: Male Pin; Contact Resistance: 30mR; Max Current Rating: 1A; Voltage Rating: 50V; Number of Positions: 5; Supplier 1: Digi-Key; Manufacturer Part Number 1: S5B-ZR-SM4A-TF(LF)(SN); Stock 1: 12253; Pricing 1: 1=0,77000, 10=0,72000, 100=0,55200, 500=0,48000 (USD); RoHS: Yes; Mount: Surface Mount; Housing Material: Polyamide; Housing Color: Beige; Color: Natural; Contact Material: Brass,Tin; Contact Plating: Tin,Copper; Min Operating Temperature: -25°C; Max Operating Temperature: 85°C; Orientation: Right Angle; Number of Rows: 1; Packaging: Tape and Reel; Current Rating: 1A; Termination: Solder; Fastening Type: Detent; Max Voltage Rating (AC): 50V; Number of Contacts: 5; Length: 10.5mm; Height: 7.2mm; Width: 3.5mm; Pitch: 1.5mm; Depth: 6.5mm; Lead Free: Lead Free; REACH SVHC: Unknown; ComponentLink1URL: https://datasheet.ciiva.com/26924/getdatasheetpartid-640788-26924051.pdf?src-supplier=Verical; ComponentLink1Description: https://datasheet.ciiva.com/26924/getdatasheetpartid-640788-26924051.pdf?src-supplier=Verical; ComponentLink2URL: https://datasheet.ciiva.com/712/ezh-712576.pdf?src-supplier=Digi-Key; ComponentLink2Description: https://datasheet.ciiva.com/712/ezh-712576.pdf?src-supplier=Digi-Key; ComponentLink3URL: https://datasheet.ciiva.com/46409/1718812-46409350.pdf?src-supplier=Element14; ComponentLink3Description: https://datasheet.ciiva.com/46409/1718812-46409350.pdf?src-supplier=Element14; ComponentLink4URL: https://datasheet.ciiva.com/46409/1718812-46409351.pdf?src-supplier=Element14; ComponentLink4Description: https://datasheet.ciiva.com/46409/1718812-46409351.pdf?src-supplier=Element14; ComponentLink5URL: https://datasheet.ciiva.com/16484/ezr-16484588.pdf?src-supplier=Future+Electronics; ComponentLink5Description: https://datasheet.ciiva.com/16484/ezr-16484588.pdf?src-supplier=Future+Electronics; ComponentLink6URL: https://datasheet.ciiva.com/712/ezh-712574.pdf?src-supplier=Digi-Key; ComponentLink6Description: https://datasheet.ciiva.com/712/ezh-712574.pdf?src-supplier=Digi-Key; ComponentLink7URL: https://datasheet.ciiva.com/712/ezh-712575.pdf?src-supplier=Digi-Key; ComponentLink7Description: https://datasheet.ciiva.com/712/ezh-712575.pdf?src-supplier=Digi-Key; Value: S5B-ZR-SM4A-TF(LF)(SN); Supplier Part Number 1: 455-1696-1-ND
footprint S5B-ZR-SM4A-TF(LF)(SN)
pins: 1, 2, 3, 4, 5, SH1 SH, SH2 SH

## SM03B-PASS-TBT(LF)(SN)
designator J?
CONN HEADER SMD R/A 3POS 2MM; Supplier 1: Digi-Key; Supplier Part Number 1: 455-2644-1-ND
footprint SM03B-PASS-TBT(LF)(SN)
pins: 1, 2, 3

## SM04B-SRSS-TB(LF)(SN)
designator J?
Conn Shrouded Header HDR 4 POS 1mm Solder RA SMD T/R; Manufacturer: JST; Number of Positions: 4; Connector Type: Male Pin; Contact Resistance: 40mR; Max Current Rating: 1A; Max Voltage Rating (DC): 50V; Pitch: 0.039inch; Supplier 1: Digi-Key; Manufacturer Part Number: SM04B-SRSS-TB(LF)(SN); Stock 1: 188424; Pricing 1: 1 = 0,61000, 10 = 0,56900, 100 = 0,43600, 500 = 0,37914, 1000 = 0,31279 (USD); RoHS: Yes; Mount: Surface Mount; Color: Natural; Contact Plating: Copper,Tin; Contact Material: Copper Alloy; Housing Color: Beige; Housing Material: Polyamide; Min Operating Temperature: -25°C; Max Operating Temperature: 85°C; Number of Rows: 1; Packaging: Tape and Reel; Termination: Solder; Orientation: Right Angle; Number of Contacts: 4; Max Voltage Rating (AC): 50V; Length: 6mm; Depth: 4.95mm; Lead Free: Lead Free; ComponentLink1URL: https://www.verical.com/server-webapp/html/getDatasheet?partID=499363&src-supplier=Verical; ComponentLink1Description: https://www.verical.com/server-webapp/html/getDatasheet?partID=499363&src-supplier=Verical; ComponentLink2URL: https://www.verical.com/server-webapp/html/getDatasheet?partID=640736&src-supplier=Verical; ComponentLink2Description: https://www.verical.com/server-webapp/html/getDatasheet?partID=640736&src-supplier=Verical; ComponentLink3URL: http://www1.futureelectronics.com/doc/JST/JST%20SM04B-SRSS-TB-LF-SN.pdf?src-supplier=Future+Electronics; ComponentLink3Description: http://www1.futureelectronics.com/doc/JST/JST%20SM04B-SRSS-TB-LF-SN.pdf?src-supplier=Future+Electronics; Value: SM04B-SRSS-TB(LF)(SN); Supplier Part Number 1: 455-1804-1-ND
footprint SM04B-SRSS-TB(LF)(SN)
pins: 1, 2, 3, 4, NC1, NC2

## TERMINAL BLOCK 2PIN 5mm
designator X?
TERM BLOCK HDR 2POS 5MM; Populated: Yes; LifeCycle: Checked; ROHS: Yes
footprint EK500/2
pins: 1, 2

## TERMINAL BLOCK 3PIN 5mm
designator X?
TERM BLOCK HDR 3POS 5MM; Value: EDSTL950/3; Populated: Yes; Supplier 1: Digi-Key; Supplier Part Number 1: ED1802-ND; RoHS: Yes; ComponentLink1URL: http://www.on-shore.com/wp-content/uploads/2015/09/edstl950.pdf; ComponentLink1Description: http://www.on-shore.com/wp-content/uploads/2015/09/edstl950.pdf; LifeCycle: Checked
footprint EK500/3
pins: 1, 2, 3

## TERMINAL BLOCK 4PIN 5mm
designator *
TERM BLOCK HDR 4POS 5MM; Populated: Yes; LifeCycle: Checked; ROHS: Yes
footprint EK500/4
pins: 1, 2, 3, 4

## XDJK-0051-025
designator J?
CONN PWR JACK 2.1mm x 6.3mm TH R/A; Manufacturer: Lian Xin Technology; Manufacturer Part Number: XDJK-0051-025; LCSC: C7498153; ComponentLink1Description: LCSC Link; ComponentLink1URL: https://www.lcsc.com/product-detail/C7498153.html?s_z=n_JACK
footprint LIANXINTECHNOLOGY_XDJK-0051-025 (CONN PWR JACK 2.1mm x 6.3mm TH R/A)
pins: 1 S, 2 T, 3 TN